# Altium schematic symbol library TYCO_6367550_40.Schlib: 1 symbol
Pins are listed as number, name and electrical type; pins without a type are passive.

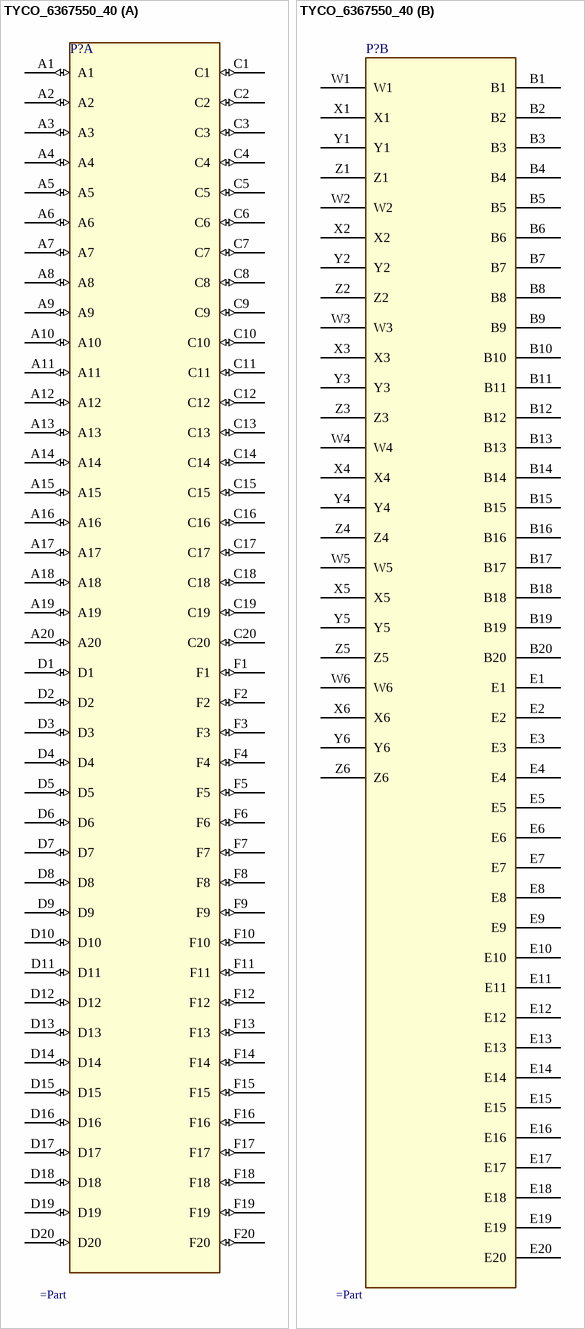
[diagram p0: symbol TYCO_6367550_40]

## TYCO_6367550_40
designator P?
ZDOK Plug-in Connector
part A pins: A1 (io), A2 (io), A3 (io), A4 (io), A5 (io), A6 (io), A7 (io), A8 (io), A9 (io), A10 (io), A11 (io), A12 (io), A13 (io), A14 (io), A15 (io), A16 (io), A17 (io), A18 (io), A19 (io), A20 (io), C1 (io), C2 (io), C3 (io), C4 (io), C5 (io), C6 (io), C7 (io), C8 (io), C9 (io), C10 (io), C11 (io), C12 (io), C13 (io), C14 (io), C15 (io), C16 (io), C17 (io), C18 (io), C19 (io), C20 (io), D1 (io), D2 (io), D3 (io), D4 (io), D5 (io), D6 (io), D7 (io), D8 (io), D9 (io), D10 (io), D11 (io), D12 (io), D13 (io), D14 (io), D15 (io), D16 (io), D17 (io), D18 (io), D19 (io), D20 (io), F1 (io), F2 (io), F3 (io), F4 (io), F5 (io), F6 (io), F7 (io), F8 (io), F9 (io), F10 (io), F11 (io), F12 (io), F13 (io), F14 (io), F15 (io), F16 (io), F17 (io), F18 (io), F19 (io), F20 (io)
part B pins: B1 (power), B2 (power), B3 (power), B4 (power), B5 (power), B6 (power), B7 (power), B8 (power), B9 (power), B10 (power), B11 (power), B12 (power), B13 (power), B14 (power), B15 (power), B16 (power), B17 (power), B18 (power), B19 (power), B20 (power), E1 (power), E2 (power), E3 (power), E4 (power), E5 (power), E6 (power), E7 (power), E8 (power), E9 (power), E10 (power), E11 (power), E12 (power), E13 (power), E14 (power), E15 (power), E16 (power), E17 (power), E18 (power), E19 (power), E20 (power), W1 (power), W2 (power), W3 (power), W4 (power), W5 (power), W6 (power), X1 (power), X2 (power), X3 (power), X4 (power), X5 (power), X6 (power), Y1 (power), Y2 (power), Y3 (power), Y4 (power), Y5 (power), Y6 (power), Z1 (power), Z2 (power), Z3 (power), Z4 (power), Z5 (power), Z6 (power)